# Altium schematic symbol library Sensor2pinterminal.SchLib: 1 symbol
Pins are listed as number, name and electrical type; pins without a type are passive.

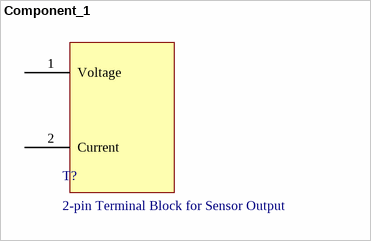
[diagram p0: symbol Component_1]

## Component_1
designator T?, comment 2-pin Terminal Block for Sensor Output
pins: 1 Voltage, 2 Current